# EAGLE library part W65C816SP (library commodore)
WDC's 16 bits successor of the -6 5 0 2-
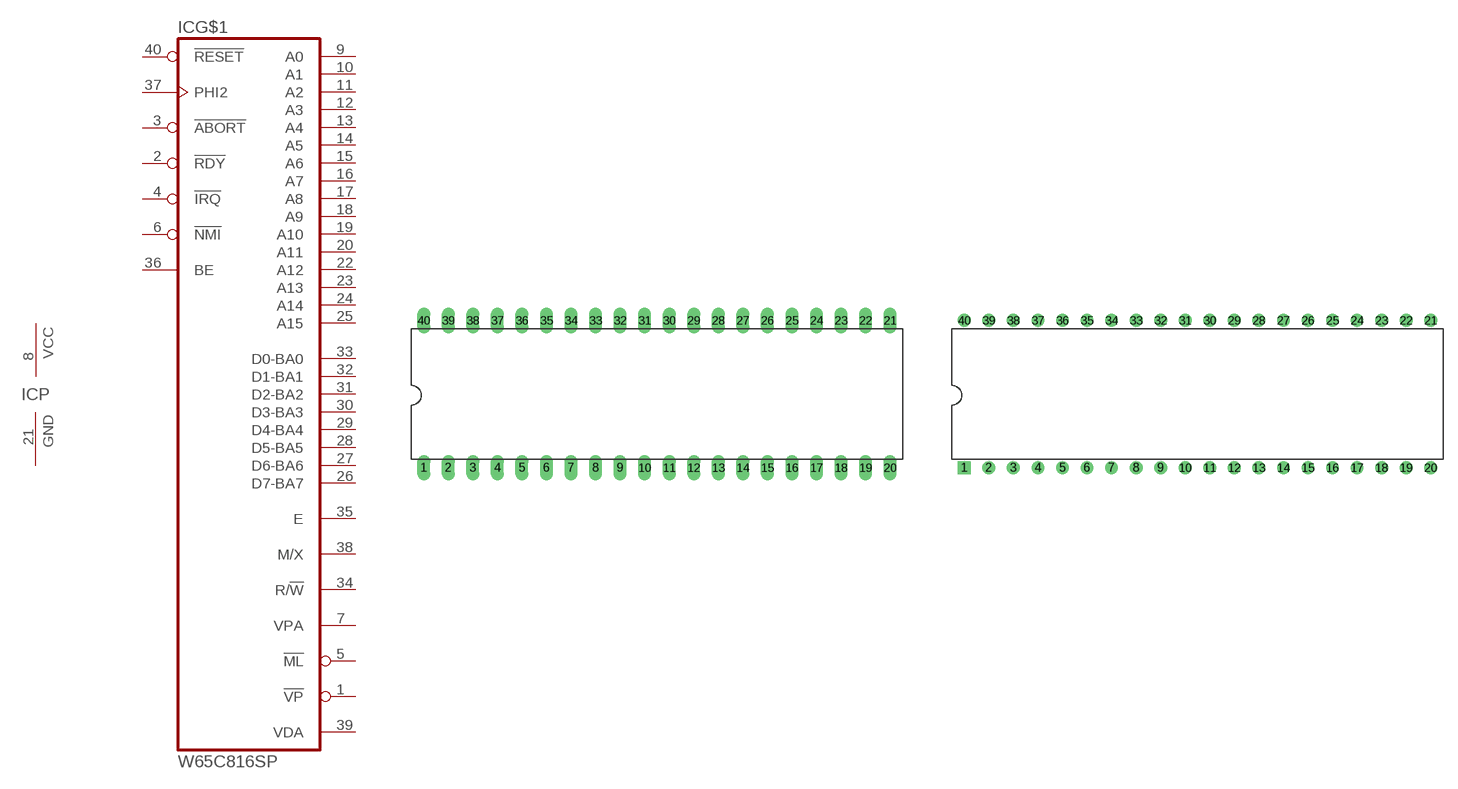
[diagram p27: symbol with the pads of DIL40; footprints DIL40, DIL40-ROUNDPAD]

Designator prefix IC; gates G$1=65C816S P=PWR-GND

## W65C816SP  [DIL40]
1  G$1:!VP  out
2  G$1:!RDY
3  G$1:!ABORT  in
4  G$1:!IRQ  in
5  G$1:!ML  out
6  G$1:!NMI  in
7  G$1:VPA  out
8  P:VCC  pwr
9  G$1:A0  hiz
10  G$1:A1  hiz
11  G$1:A2  hiz
12  G$1:A3  hiz
13  G$1:A4  hiz
14  G$1:A5  hiz
15  G$1:A6  hiz
16  G$1:A7  hiz
17  G$1:A8  hiz
18  G$1:A9  hiz
19  G$1:A10  hiz
20  G$1:A11  hiz
21  P:GND  pwr
22  G$1:A12  hiz
23  G$1:A13  hiz
24  G$1:A14  hiz
25  G$1:A15  hiz
26  G$1:D7-BA7
27  G$1:D6-BA6
28  G$1:D5-BA5
29  G$1:D4-BA4
30  G$1:D3-BA3
31  G$1:D2-BA2
32  G$1:D1-BA1
33  G$1:D0-BA0
34  G$1:R/!W  out
35  G$1:E  out
36  G$1:BE  in
37  G$1:PHI2  in
38  G$1:M/X  out
39  G$1:VDA  out
40  G$1:!RESET  in

## W65C816SP-RP  [DIL40-ROUNDPAD]
Pads as for DIL40

## Footprint DIL40 (pad centres in mm)
Dual In Line Package
drill 0.813 long: 1 -24.13,-7.62; 2 -21.59,-7.62; 3 -19.05,-7.62; 4 -16.51,-7.62; 5 -13.97,-7.62; 6 -11.43,-7.62; 7 -8.89,-7.62; 8 -6.35,-7.62; 9 -3.81,-7.62; 10 -1.27,-7.62; 11 1.27,-7.62; 12 3.81,-7.62; 13 6.35,-7.62; 14 8.89,-7.62; 15 11.43,-7.62; 16 13.97,-7.62; 17 16.51,-7.62; 18 19.05,-7.62; 19 21.59,-7.62; 20 24.13,-7.62; 21 24.13,7.62; 22 21.59,7.62; 23 19.05,7.62; 24 16.51,7.62; 25 13.97,7.62; 26 11.43,7.62; 27 8.89,7.62; 28 6.35,7.62; 29 3.81,7.62; 30 1.27,7.62; 31 -1.27,7.62; 32 -3.81,7.62; 33 -6.35,7.62; 34 -8.89,7.62; 35 -11.43,7.62; 36 -13.97,7.62; 37 -16.51,7.62; 38 -19.05,7.62; 39 -21.59,7.62; 40 -24.13,7.62

## Footprint DIL40-ROUNDPAD (pad centres in mm)
Dual In Line Package
drill 0.813 square: 1 -24.13,-7.62
drill 0.813: 2 -21.59,-7.62; 3 -19.05,-7.62; 4 -16.51,-7.62; 5 -13.97,-7.62; 6 -11.43,-7.62; 7 -8.89,-7.62; 8 -6.35,-7.62; 9 -3.81,-7.62; 10 -1.27,-7.62; 11 1.27,-7.62; 12 3.81,-7.62; 13 6.35,-7.62; 14 8.89,-7.62; 15 11.43,-7.62; 16 13.97,-7.62; 17 16.51,-7.62; 18 19.05,-7.62; 19 21.59,-7.62; 20 24.13,-7.62; 21 24.13,7.62; 22 21.59,7.62; 23 19.05,7.62; 24 16.51,7.62; 25 13.97,7.62; 26 11.43,7.62; 27 8.89,7.62; 28 6.35,7.62; 29 3.81,7.62; 30 1.27,7.62; 31 -1.27,7.62; 32 -3.81,7.62; 33 -6.35,7.62; 34 -8.89,7.62; 35 -11.43,7.62; 36 -13.97,7.62; 37 -16.51,7.62; 38 -19.05,7.62; 39 -21.59,7.62; 40 -24.13,7.62